# EAGLE library part BMI088 (library IGVC-Sensor)
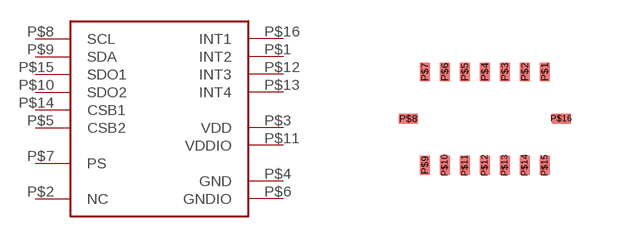
[diagram p1: symbol with the pads of BMI088; footprint BMI088]

Designator prefix -

## BMI088  [BMI088]
P$1  INT2
P$2  NC
P$3  VDD
P$4  GND
P$5  CSB2
P$6  GNDIO
P$7  PS
P$8  SCL
P$9  SDA
P$10  SDO2
P$11  VDDIO
P$12  INT3
P$13  INT4
P$14  CSB1
P$15  SDO1
P$16  INT1

## Footprint BMI088 (pad centres in mm)
smd 0.25 x 0.475: P$1 3.75,2.665; P$2 3.25,2.665; P$3 2.75,2.665; P$4 2.25,2.665; P$5 1.75,2.665; P$6 1.25,2.665; P$7 0.75,2.665; P$9 0.75,0.335; P$10 1.25,0.335; P$11 1.75,0.335; P$12 2.25,0.335; P$13 2.75,0.335; P$14 3.25,0.335; P$15 3.75,0.335
smd 0.475 x 0.25: P$8 0.335,1.5; P$16 4.165,1.5